# EAGLE library part XC3S1000FG456 (library xilinx_spartan3_virtex4_and_5)
Xilinx FPGA
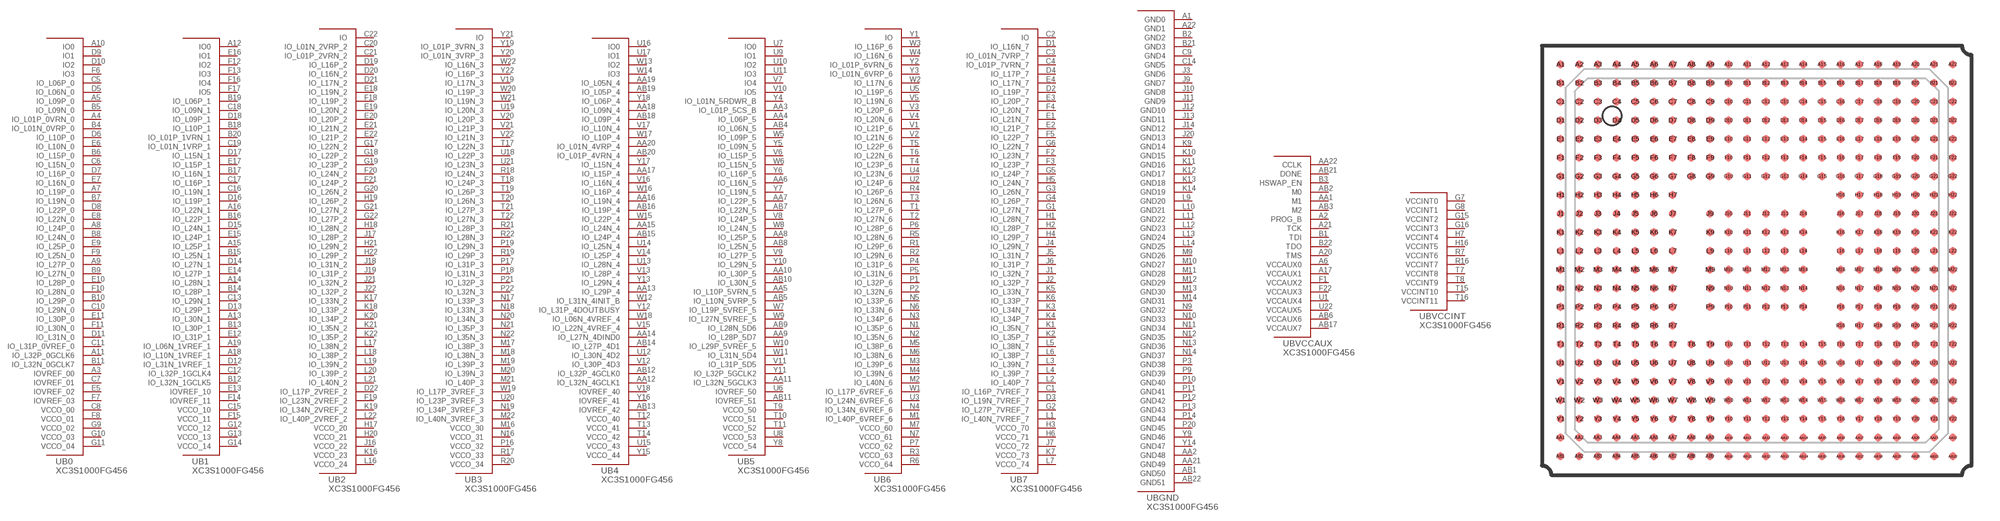
[diagram p16: symbol with the pads of FG456; footprint FG456]

Designator prefix U; gates B0=XC3S1000FG456_0 B1=XC3S1000FG456_1 B2=XC3S1000FG456_2 B3=XC3S1000FG456_3 B4=XC3S1000FG456_4 B5=XC3S1000FG456_5 B6=XC3S1000FG456_6 B7=XC3S1000FG456_7 BGND=XC3S1000FG456_GND BVCCAUX=XC3S1000FG456_VCCAUX BVCCINT=XC3S1000FG456_VCCINT

## XC3S1000FG456  [FG456]
A1  BGND:GND0  pas
A2  BVCCAUX:PROG_B
A3  B0:IOVREF_00
A4  B0:IO_L01P_0VRN_0
A5  B0:IO_L09P_0
A6  BVCCAUX:VCCAUX0  pas
A7  B0:IO_L19P_0
A8  B0:IO_L24P_0
A9  B0:IO_L27P_0
A10  B0:IO0
A11  B0:IO_L32P_0GCLK6
A12  B1:IO0
A13  B1:IO_L30N_1
A14  B1:IO_L28N_1
A15  B1:IO_L25P_1
A16  B1:IO_L22N_1
A17  BVCCAUX:VCCAUX1  pas
A18  B1:IO_L10N_1VREF_1
A19  B1:IO_L06N_1VREF_1
A20  BVCCAUX:TMS
A21  BVCCAUX:TCK
A22  BGND:GND1  pas
AA1  BVCCAUX:M1
AA2  BGND:GND48  pas
AA3  B5:IO_L01P_5CS_B
AA4  B5:IO_L06P_5
AA5  B5:IO_L10P_5VRN_5
AA6  B5:IO_L16N_5
AA7  B5:IO_L22P_5
AA8  B5:IO_L25P_5
AA9  B5:IO_L28P_5D7
AA10  B5:IO_L30P_5
AA11  B5:IO_L32N_5GCLK3
AA12  B4:IO_L32N_4GCLK1
AA13  B4:IO_L29P_4
AA14  B4:IO_L27N_4DIND0
AA15  B4:IO_L24N_4
AA16  B4:IO_L19N_4
AA17  B4:IO_L15P_4
AA18  B4:IO_L09N_4
AA19  B4:IO_L05N_4
AA20  B4:IO_L01N_4VRP_4
AA21  BGND:GND49  pas
AA22  BVCCAUX:CCLK
AB1  BGND:GND50  pas
AB2  BVCCAUX:M0
AB3  BVCCAUX:M2
AB4  B5:IO_L06N_5
AB5  B5:IO_L10N_5VRP_5
AB6  BVCCAUX:VCCAUX6  pas
AB7  B5:IO_L22N_5
AB8  B5:IO_L25N_5
AB9  B5:IO_L28N_5D6
AB10  B5:IO_L30N_5
AB11  B5:IOVREF_51
AB12  B4:IO_L32P_4GCLK0
AB13  B4:IOVREF_42
AB14  B4:IO_L27P_4D1
AB15  B4:IO_L24P_4
AB16  B4:IO_L19P_4
AB17  BVCCAUX:VCCAUX7  pas
AB18  B4:IO_L09P_4
AB19  B4:IO_L05P_4
AB20  B4:IO_L01P_4VRN_4
AB21  BVCCAUX:DONE
AB22  BGND:GND51  pas
B1  BVCCAUX:TDI
B2  BGND:GND2  pas
B3  BVCCAUX:HSWAP_EN
B4  B0:IO_L01N_0VRP_0
B5  B0:IO_L09N_0
B6  B0:IO_L15P_0
B7  B0:IO_L19N_0
B8  B0:IO_L24N_0
B9  B0:IO_L27N_0
B10  B0:IO_L29P_0
B11  B0:IO_L32N_0GCLK7
B12  B1:IO_L32N_1GCLK5
B13  B1:IO_L30P_1
B14  B1:IO_L28P_1
B15  B1:IO_L25N_1
B16  B1:IO_L22P_1
B17  B1:IO_L16N_1
B18  B1:IO_L10P_1
B19  B1:IO_L06P_1
B20  B1:IO_L01P_1VRN_1
B21  BGND:GND3  pas
B22  BVCCAUX:TDO
C1  B7:IO_L16P_7VREF_7
C2  B7:IO
C3  B7:IO_L01N_7VRP_7
C4  B7:IO_L01P_7VRN_7
C5  B0:IO_L06P_0
C6  B0:IO_L15N_0
C7  B0:IOVREF_01
C8  B0:VCCO_00  pas
C9  BGND:GND4  pas
C10  B0:IO_L29N_0
C11  B0:IO_L31P_0VREF_0
C12  B1:IO_L32P_1GCLK4
C13  B1:IO_L29N_1
C14  BGND:GND5  pas
C15  B1:VCCO_10  pas
C16  B1:IO_L19N_1
C17  B1:IO_L16P_1
C18  B1:IO_L09N_1
C19  B1:IO_L01N_1VRP_1
C20  B2:IO_L01N_2VRP_2
C21  B2:IO_L01P_2VRN_2
C22  B2:IO
D1  B7:IO_L16N_7
D2  B7:IO_L19P_7
D3  B7:IO_L19N_7VREF_7
D4  B7:IO_L17P_7
D5  B0:IO_L06N_0
D6  B0:IO_L10P_0
D7  B0:IO_L16P_0
D8  B0:IO_L22P_0
D9  B0:IO1
D10  B0:IO2
D11  B0:IO_L31N_0
D12  B1:IO_L31N_1VREF_1
D13  B1:IO_L29P_1
D14  B1:IO_L27N_1
D15  B1:IO_L24N_1
D16  B1:IO_L19P_1
D17  B1:IO_L15N_1
D18  B1:IO_L09P_1
D19  B2:IO_L16P_2
D20  B2:IO_L16N_2
D21  B2:IO_L17N_2
D22  B2:IO_L17P_2VREF_2
E1  B7:IO_L21N_7
E2  B7:IO_L21P_7
E3  B7:IO_L20P_7
E4  B7:IO_L17N_7
E5  B0:IOVREF_02
E6  B0:IO_L10N_0
E7  B0:IO_L16N_0
E8  B0:IO_L22N_0
E9  B0:IO_L25P_0
E10  B0:IO_L28P_0
E11  B0:IO_L30P_0
E12  B1:IO_L31P_1
E13  B1:IOVREF_10
E14  B1:IO_L27P_1
E15  B1:IO_L24P_1
E16  B1:IO1
E17  B1:IO_L15P_1
E18  B2:IO_L19N_2
E19  B2:IO_L20N_2
E20  B2:IO_L20P_2
E21  B2:IO_L21N_2
E22  B2:IO_L21P_2
F1  BVCCAUX:VCCAUX2  pas
F2  B7:IO_L23N_7
F3  B7:IO_L23P_7
F4  B7:IO_L20N_7
F5  B7:IO_L22P_7
F6  B0:IO3
F7  B0:IOVREF_03
F8  B0:VCCO_01  pas
F9  B0:IO_L25N_0
F10  B0:IO_L28N_0
F11  B0:IO_L30N_0
F12  B1:IO2
F13  B1:IO3
F14  B1:IOVREF_11
F15  B1:VCCO_11  pas
F16  B1:IO4
F17  B1:IO5
F18  B2:IO_L19P_2
F19  B2:IO_L23N_2VREF_2
F20  B2:IO_L24N_2
F21  B2:IO_L24P_2
F22  BVCCAUX:VCCAUX3  pas
G1  B7:IO_L27N_7
G2  B7:IO_L27P_7VREF_7
G3  B7:IO_L26N_7
G4  B7:IO_L26P_7
G5  B7:IO_L24P_7
G6  B7:IO_L22N_7
G7  BVCCINT:VCCINT0  pas
G8  BVCCINT:VCCINT1  pas
G9  B0:VCCO_02  pas
G10  B0:VCCO_03  pas
G11  B0:VCCO_04  pas
G12  B1:VCCO_12  pas
G13  B1:VCCO_13  pas
G14  B1:VCCO_14  pas
G15  BVCCINT:VCCINT2  pas
G16  BVCCINT:VCCINT3  pas
G17  B2:IO_L22N_2
G18  B2:IO_L22P_2
G19  B2:IO_L23P_2
G20  B2:IO_L26N_2
G21  B2:IO_L27N_2
G22  B2:IO_L27P_2
H1  B7:IO_L28N_7
H2  B7:IO_L28P_7
H3  B7:VCCO_70  pas
H4  B7:IO_L29P_7
H5  B7:IO_L24N_7
H6  B7:VCCO_71  pas
H7  BVCCINT:VCCINT4  pas
H16  BVCCINT:VCCINT5  pas
H17  B2:VCCO_20  pas
H18  B2:IO_L28N_2
H19  B2:IO_L26P_2
H20  B2:VCCO_21  pas
H21  B2:IO_L29N_2
H22  B2:IO_L29P_2
J1  B7:IO_L32N_7
J2  B7:IO_L32P_7
J3  BGND:GND6  pas
J4  B7:IO_L29N_7
J5  B7:IO_L31N_7
J6  B7:IO_L31P_7
J7  B7:VCCO_72  pas
J9  BGND:GND7  pas
J10  BGND:GND8  pas
J11  BGND:GND9  pas
J12  BGND:GND10  pas
J13  BGND:GND11  pas
J14  BGND:GND12  pas
J16  B2:VCCO_22  pas
J17  B2:IO_L28P_2
J18  B2:IO_L31N_2
J19  B2:IO_L31P_2
J20  BGND:GND13  pas
J21  B2:IO_L32N_2
J22  B2:IO_L32P_2
K1  B7:IO_L35N_7
K2  B7:IO_L35P_7
K3  B7:IO_L34N_7
K4  B7:IO_L34P_7
K5  B7:IO_L33N_7
K6  B7:IO_L33P_7
K7  B7:VCCO_73  pas
K9  BGND:GND14  pas
K10  BGND:GND15  pas
K11  BGND:GND16  pas
K12  BGND:GND17  pas
K13  BGND:GND18  pas
K14  BGND:GND19  pas
K16  B2:VCCO_23  pas
K17  B2:IO_L33N_2
K18  B2:IO_L33P_2
K19  B2:IO_L34N_2VREF_2
K20  B2:IO_L34P_2
K21  B2:IO_L35N_2
K22  B2:IO_L35P_2
L1  B7:IO_L40N_7VREF_7
L2  B7:IO_L40P_7
L3  B7:IO_L39N_7
L4  B7:IO_L39P_7
L5  B7:IO_L38N_7
L6  B7:IO_L38P_7
L7  B7:VCCO_74  pas
L9  BGND:GND20  pas
L10  BGND:GND21  pas
L11  BGND:GND22  pas
L12  BGND:GND23  pas
L13  BGND:GND24  pas
L14  BGND:GND25  pas
L16  B2:VCCO_24  pas
L17  B2:IO_L38N_2
L18  B2:IO_L38P_2
L19  B2:IO_L39N_2
L20  B2:IO_L39P_2
L21  B2:IO_L40N_2
L22  B2:IO_L40P_2VREF_2
M1  B6:IO_L40P_6VREF_6
M2  B6:IO_L40N_6
M3  B6:IO_L39P_6
M4  B6:IO_L39N_6
M5  B6:IO_L38P_6
M6  B6:IO_L38N_6
M7  B6:VCCO_60  pas
M9  BGND:GND26  pas
M10  BGND:GND27  pas
M11  BGND:GND28  pas
M12  BGND:GND29  pas
M13  BGND:GND30  pas
M14  BGND:GND31  pas
M16  B3:VCCO_30  pas
M17  B3:IO_L38P_3
M18  B3:IO_L38N_3
M19  B3:IO_L39P_3
M20  B3:IO_L39N_3
M21  B3:IO_L40P_3
M22  B3:IO_L40N_3VREF_3
N1  B6:IO_L35P_6
N2  B6:IO_L35N_6
N3  B6:IO_L34P_6
N4  B6:IO_L34N_6VREF_6
N5  B6:IO_L33P_6
N6  B6:IO_L33N_6
N7  B6:VCCO_61  pas
N9  BGND:GND32  pas
N10  BGND:GND33  pas
N11  BGND:GND34  pas
N12  BGND:GND35  pas
N13  BGND:GND36  pas
N14  BGND:GND37  pas
N16  B3:VCCO_31  pas
N17  B3:IO_L33P_3
N18  B3:IO_L33N_3
N19  B3:IO_L34P_3VREF_3
N20  B3:IO_L34N_3
N21  B3:IO_L35P_3
N22  B3:IO_L35N_3
P1  B6:IO_L32P_6
P2  B6:IO_L32N_6
P3  BGND:GND38  pas
P4  B6:IO_L31P_6
P5  B6:IO_L31N_6
P6  B6:IO_L28P_6
P7  B6:VCCO_62  pas
P9  BGND:GND39  pas
P10  BGND:GND40  pas
P11  BGND:GND41  pas
P12  BGND:GND42  pas
P13  BGND:GND43  pas
P14  BGND:GND44  pas
P16  B3:VCCO_32  pas
P17  B3:IO_L31P_3
P18  B3:IO_L31N_3
P19  B3:IO_L29N_3
P20  BGND:GND45  pas
P21  B3:IO_L32P_3
P22  B3:IO_L32N_3
R1  B6:IO_L29P_6
R2  B6:IO_L29N_6
R3  B6:VCCO_63  pas
R4  B6:IO_L26P_6
R5  B6:IO_L28N_6
R6  B6:VCCO_64  pas
R7  BVCCINT:VCCINT6  pas
R16  BVCCINT:VCCINT7  pas
R17  B3:VCCO_33  pas
R18  B3:IO_L24N_3
R19  B3:IO_L29P_3
R20  B3:VCCO_34  pas
R21  B3:IO_L28P_3
R22  B3:IO_L28N_3
T1  B6:IO_L27P_6
T2  B6:IO_L27N_6
T3  B6:IO_L26N_6
T4  B6:IO_L23P_6
T5  B6:IO_L22P_6
T6  B6:IO_L22N_6
T7  BVCCINT:VCCINT8  pas
T8  BVCCINT:VCCINT9  pas
T9  B5:VCCO_50  pas
T10  B5:VCCO_51  pas
T11  B5:VCCO_52  pas
T12  B4:VCCO_40  pas
T13  B4:VCCO_41  pas
T14  B4:VCCO_42  pas
T15  BVCCINT:VCCINT10  pas
T16  BVCCINT:VCCINT11  pas
T17  B3:IO_L22N_3
T18  B3:IO_L24P_3
T19  B3:IO_L26P_3
T20  B3:IO_L26N_3
T21  B3:IO_L27P_3
T22  B3:IO_L27N_3
U1  BVCCAUX:VCCAUX4  pas
U2  B6:IO_L24P_6
U3  B6:IO_L24N_6VREF_6
U4  B6:IO_L23N_6
U5  B6:IO_L19P_6
U6  B5:IOVREF_50
U7  B5:IO0
U8  B5:VCCO_53  pas
U9  B5:IO1
U10  B5:IO2
U11  B5:IO3
U12  B4:IO_L30N_4D2
U13  B4:IO_L28N_4
U14  B4:IO_L25N_4
U15  B4:VCCO_43  pas
U16  B4:IO0
U17  B4:IO1
U18  B3:IO_L22P_3
U19  B3:IO_L20N_3
U20  B3:IO_L23P_3VREF_3
U21  B3:IO_L23N_3
U22  BVCCAUX:VCCAUX5  pas
V1  B6:IO_L21P_6
V2  B6:IO_L21N_6
V3  B6:IO_L20P_6
V4  B6:IO_L20N_6
V5  B6:IO_L19N_6
V6  B5:IO_L15P_5
V7  B5:IO4
V8  B5:IO_L24P_5
V9  B5:IO_L27P_5
V10  B5:IO5
V11  B5:IO_L31P_5D5
V12  B4:IO_L30P_4D3
V13  B4:IO_L28P_4
V14  B4:IO_L25P_4
V15  B4:IO_L22N_4VREF_4
V16  B4:IO_L16N_4
V17  B4:IO_L10N_4
V18  B4:IOVREF_40
V19  B3:IO_L17N_3
V20  B3:IO_L20P_3
V21  B3:IO_L21P_3
V22  B3:IO_L21N_3
W1  B6:IO_L17P_6VREF_6
W2  B6:IO_L17N_6
W3  B6:IO_L16P_6
W4  B6:IO_L16N_6
W5  B5:IO_L09P_5
W6  B5:IO_L15N_5
W7  B5:IO_L19P_5VREF_5
W8  B5:IO_L24N_5
W9  B5:IO_L27N_5VREF_5
W10  B5:IO_L29P_5VREF_5
W11  B5:IO_L31N_5D4
W12  B4:IO_L31N_4INIT_B
W13  B4:IO2
W14  B4:IO3
W15  B4:IO_L22P_4
W16  B4:IO_L16P_4
W17  B4:IO_L10P_4
W18  B4:IO_L06N_4VREF_4
W19  B3:IO_L17P_3VREF_3
W20  B3:IO_L19P_3
W21  B3:IO_L19N_3
W22  B3:IO_L16N_3
Y1  B6:IO
Y2  B6:IO_L01P_6VRN_6
Y3  B6:IO_L01N_6VRP_6
Y4  B5:IO_L01N_5RDWR_B
Y5  B5:IO_L09N_5
Y6  B5:IO_L16P_5
Y7  B5:IO_L19N_5
Y8  B5:VCCO_54  pas
Y9  BGND:GND46  pas
Y10  B5:IO_L29N_5
Y11  B5:IO_L32P_5GCLK2
Y12  B4:IO_L31P_4DOUTBUSY
Y13  B4:IO_L29N_4
Y14  BGND:GND47  pas
Y15  B4:VCCO_44  pas
Y16  B4:IOVREF_41
Y17  B4:IO_L15N_4
Y18  B4:IO_L06P_4
Y19  B3:IO_L01P_3VRN_3
Y20  B3:IO_L01N_3VRP_3
Y21  B3:IO
Y22  B3:IO_L16P_3

## Footprint FG456 (pad centres in mm)
smd 0.4 x 0.4: A1 -10.5,10.5; A2 -9.5,10.5; A3 -8.5,10.5; A4 -7.5,10.5; A5 -6.5,10.5; A6 -5.5,10.5; A7 -4.5,10.5; A8 -3.5,10.5; A9 -2.5,10.5; A10 -1.5,10.5; A11 -0.5,10.5; A12 0.5,10.5; A13 1.5,10.5; A14 2.5,10.5; A15 3.5,10.5; A16 4.5,10.5; A17 5.5,10.5; A18 6.5,10.5; A19 7.5,10.5; A20 8.5,10.5; A21 9.5,10.5; A22 10.5,10.5; AA1 -10.5,-9.5; AA2 -9.5,-9.5; AA3 -8.5,-9.5; AA4 -7.5,-9.5; AA5 -6.5,-9.5; AA6 -5.5,-9.5; AA7 -4.5,-9.5; AA8 -3.5,-9.5; AA9 -2.5,-9.5; AA10 -1.5,-9.5; AA11 -0.5,-9.5; AA12 0.5,-9.5; AA13 1.5,-9.5; AA14 2.5,-9.5; AA15 3.5,-9.5; AA16 4.5,-9.5; AA17 5.5,-9.5; AA18 6.5,-9.5; AA19 7.5,-9.5; AA20 8.5,-9.5; AA21 9.5,-9.5; AA22 10.5,-9.5; AB1 -10.5,-10.5; AB2 -9.5,-10.5; AB3 -8.5,-10.5; AB4 -7.5,-10.5; AB5 -6.5,-10.5; AB6 -5.5,-10.5; AB7 -4.5,-10.5; AB8 -3.5,-10.5; AB9 -2.5,-10.5; AB10 -1.5,-10.5; AB11 -0.5,-10.5; AB12 0.5,-10.5; AB13 1.5,-10.5; AB14 2.5,-10.5; AB15 3.5,-10.5; AB16 4.5,-10.5; AB17 5.5,-10.5; AB18 6.5,-10.5; AB19 7.5,-10.5; AB20 8.5,-10.5; AB21 9.5,-10.5; AB22 10.5,-10.5; B1 -10.5,9.5; B2 -9.5,9.5; B3 -8.5,9.5; B4 -7.5,9.5; B5 -6.5,9.5; B6 -5.5,9.5; B7 -4.5,9.5; B8 -3.5,9.5; B9 -2.5,9.5; B10 -1.5,9.5; B11 -0.5,9.5; B12 0.5,9.5; B13 1.5,9.5; B14 2.5,9.5; B15 3.5,9.5; B16 4.5,9.5; B17 5.5,9.5; B18 6.5,9.5; B19 7.5,9.5; B20 8.5,9.5; B21 9.5,9.5; B22 10.5,9.5; C1 -10.5,8.5; C2 -9.5,8.5; C3 -8.5,8.5; C4 -7.5,8.5; C5 -6.5,8.5; C6 -5.5,8.5; C7 -4.5,8.5; C8 -3.5,8.5; C9 -2.5,8.5; C10 -1.5,8.5; C11 -0.5,8.5; C12 0.5,8.5; C13 1.5,8.5; C14 2.5,8.5; C15 3.5,8.5; C16 4.5,8.5; C17 5.5,8.5; C18 6.5,8.5; C19 7.5,8.5; C20 8.5,8.5; C21 9.5,8.5; C22 10.5,8.5; D1 -10.5,7.5; D2 -9.5,7.5; D3 -8.5,7.5; D4 -7.5,7.5; D5 -6.5,7.5; D6 -5.5,7.5; D7 -4.5,7.5; D8 -3.5,7.5; D9 -2.5,7.5; D10 -1.5,7.5; D11 -0.5,7.5; D12 0.5,7.5; D13 1.5,7.5; D14 2.5,7.5; D15 3.5,7.5; D16 4.5,7.5; D17 5.5,7.5; D18 6.5,7.5; D19 7.5,7.5; D20 8.5,7.5; D21 9.5,7.5; D22 10.5,7.5; E1 -10.5,6.5; E2 -9.5,6.5; E3 -8.5,6.5; E4 -7.5,6.5; E5 -6.5,6.5; E6 -5.5,6.5; E7 -4.5,6.5; E8 -3.5,6.5; E9 -2.5,6.5; E10 -1.5,6.5; E11 -0.5,6.5; E12 0.5,6.5; E13 1.5,6.5; E14 2.5,6.5; E15 3.5,6.5; E16 4.5,6.5; E17 5.5,6.5; E18 6.5,6.5; E19 7.5,6.5; E20 8.5,6.5; E21 9.5,6.5; E22 10.5,6.5; F1 -10.5,5.5; F2 -9.5,5.5; F3 -8.5,5.5; F4 -7.5,5.5; F5 -6.5,5.5; F6 -5.5,5.5; F7 -4.5,5.5; F8 -3.5,5.5; F9 -2.5,5.5; F10 -1.5,5.5; F11 -0.5,5.5; F12 0.5,5.5; F13 1.5,5.5; F14 2.5,5.5; F15 3.5,5.5; F16 4.5,5.5; F17 5.5,5.5; F18 6.5,5.5; F19 7.5,5.5; F20 8.5,5.5; F21 9.5,5.5; F22 10.5,5.5; G1 -10.5,4.5; G2 -9.5,4.5; G3 -8.5,4.5; G4 -7.5,4.5; G5 -6.5,4.5; G6 -5.5,4.5; G7 -4.5,4.5; G8 -3.5,4.5; G9 -2.5,4.5; G10 -1.5,4.5; G11 -0.5,4.5; G12 0.5,4.5; G13 1.5,4.5; G14 2.5,4.5; G15 3.5,4.5; G16 4.5,4.5; G17 5.5,4.5; G18 6.5,4.5; G19 7.5,4.5; G20 8.5,4.5; G21 9.5,4.5; G22 10.5,4.5; H1 -10.5,3.5; H2 -9.5,3.5; H3 -8.5,3.5; H4 -7.5,3.5; H5 -6.5,3.5; H6 -5.5,3.5; H7 -4.5,3.5; H16 4.5,3.5; H17 5.5,3.5; H18 6.5,3.5; H19 7.5,3.5; H20 8.5,3.5; H21 9.5,3.5; H22 10.5,3.5; J1 -10.5,2.5; J2 -9.5,2.5; J3 -8.5,2.5; J4 -7.5,2.5; J5 -6.5,2.5; J6 -5.5,2.5; J7 -4.5,2.5; J9 -2.5,2.5; J10 -1.5,2.5; J11 -0.5,2.5; J12 0.5,2.5; J13 1.5,2.5; J14 2.5,2.5; J16 4.5,2.5; J17 5.5,2.5; J18 6.5,2.5; J19 7.5,2.5; J20 8.5,2.5; J21 9.5,2.5; J22 10.5,2.5; K1 -10.5,1.5; K2 -9.5,1.5; K3 -8.5,1.5; K4 -7.5,1.5; K5 -6.5,1.5; K6 -5.5,1.5; K7 -4.5,1.5; K9 -2.5,1.5; K10 -1.5,1.5; K11 -0.5,1.5; K12 0.5,1.5; K13 1.5,1.5; K14 2.5,1.5; K16 4.5,1.5; K17 5.5,1.5; K18 6.5,1.5; K19 7.5,1.5; K20 8.5,1.5; K21 9.5,1.5; K22 10.5,1.5; L1 -10.5,0.5; L2 -9.5,0.5; L3 -8.5,0.5; L4 -7.5,0.5; L5 -6.5,0.5; L6 -5.5,0.5; L7 -4.5,0.5; L9 -2.5,0.5; L10 -1.5,0.5; L11 -0.5,0.5; L12 0.5,0.5; L13 1.5,0.5; L14 2.5,0.5; L16 4.5,0.5; L17 5.5,0.5; L18 6.5,0.5; L19 7.5,0.5; L20 8.5,0.5; L21 9.5,0.5; L22 10.5,0.5; M1 -10.5,-0.5; M2 -9.5,-0.5; M3 -8.5,-0.5; M4 -7.5,-0.5; M5 -6.5,-0.5; M6 -5.5,-0.5; M7 -4.5,-0.5; M9 -2.5,-0.5; M10 -1.5,-0.5; M11 -0.5,-0.5; M12 0.5,-0.5; M13 1.5,-0.5; M14 2.5,-0.5; M16 4.5,-0.5; M17 5.5,-0.5; M18 6.5,-0.5; M19 7.5,-0.5; M20 8.5,-0.5; M21 9.5,-0.5; M22 10.5,-0.5; N1 -10.5,-1.5; N2 -9.5,-1.5; N3 -8.5,-1.5; N4 -7.5,-1.5; N5 -6.5,-1.5; N6 -5.5,-1.5; N7 -4.5,-1.5; N9 -2.5,-1.5; N10 -1.5,-1.5; N11 -0.5,-1.5; N12 0.5,-1.5; N13 1.5,-1.5; N14 2.5,-1.5; N16 4.5,-1.5; N17 5.5,-1.5; N18 6.5,-1.5; N19 7.5,-1.5; N20 8.5,-1.5; N21 9.5,-1.5; N22 10.5,-1.5; P1 -10.5,-2.5; P2 -9.5,-2.5; P3 -8.5,-2.5; P4 -7.5,-2.5; P5 -6.5,-2.5; P6 -5.5,-2.5; P7 -4.5,-2.5; P9 -2.5,-2.5; P10 -1.5,-2.5; P11 -0.5,-2.5; P12 0.5,-2.5; P13 1.5,-2.5; P14 2.5,-2.5; P16 4.5,-2.5; P17 5.5,-2.5; P18 6.5,-2.5; P19 7.5,-2.5; P20 8.5,-2.5; P21 9.5,-2.5; P22 10.5,-2.5; R1 -10.5,-3.5; R2 -9.5,-3.5; R3 -8.5,-3.5; R4 -7.5,-3.5; R5 -6.5,-3.5; R6 -5.5,-3.5; R7 -4.5,-3.5; R16 4.5,-3.5; R17 5.5,-3.5; R18 6.5,-3.5; R19 7.5,-3.5; R20 8.5,-3.5; R21 9.5,-3.5; R22 10.5,-3.5; T1 -10.5,-4.5; T2 -9.5,-4.5; T3 -8.5,-4.5; T4 -7.5,-4.5; T5 -6.5,-4.5; T6 -5.5,-4.5; T7 -4.5,-4.5; T8 -3.5,-4.5; T9 -2.5,-4.5; T10 -1.5,-4.5; T11 -0.5,-4.5; T12 0.5,-4.5; T13 1.5,-4.5; T14 2.5,-4.5; T15 3.5,-4.5; T16 4.5,-4.5; T17 5.5,-4.5; T18 6.5,-4.5; T19 7.5,-4.5; T20 8.5,-4.5; T21 9.5,-4.5; T22 10.5,-4.5; U1 -10.5,-5.5; U2 -9.5,-5.5; U3 -8.5,-5.5; U4 -7.5,-5.5; U5 -6.5,-5.5; U6 -5.5,-5.5; U7 -4.5,-5.5; U8 -3.5,-5.5; U9 -2.5,-5.5; U10 -1.5,-5.5; U11 -0.5,-5.5; U12 0.5,-5.5; U13 1.5,-5.5; U14 2.5,-5.5; U15 3.5,-5.5; U16 4.5,-5.5; U17 5.5,-5.5; U18 6.5,-5.5; U19 7.5,-5.5; U20 8.5,-5.5; U21 9.5,-5.5; U22 10.5,-5.5; V1 -10.5,-6.5; V2 -9.5,-6.5; V3 -8.5,-6.5; V4 -7.5,-6.5; V5 -6.5,-6.5; V6 -5.5,-6.5; V7 -4.5,-6.5; V8 -3.5,-6.5; V9 -2.5,-6.5; V10 -1.5,-6.5; V11 -0.5,-6.5; V12 0.5,-6.5; V13 1.5,-6.5; V14 2.5,-6.5; V15 3.5,-6.5; V16 4.5,-6.5; V17 5.5,-6.5; V18 6.5,-6.5; V19 7.5,-6.5; V20 8.5,-6.5; V21 9.5,-6.5; V22 10.5,-6.5; W1 -10.5,-7.5; W2 -9.5,-7.5; W3 -8.5,-7.5; W4 -7.5,-7.5; W5 -6.5,-7.5; W6 -5.5,-7.5; W7 -4.5,-7.5; W8 -3.5,-7.5; W9 -2.5,-7.5; W10 -1.5,-7.5; W11 -0.5,-7.5; W12 0.5,-7.5; W13 1.5,-7.5; W14 2.5,-7.5; W15 3.5,-7.5; W16 4.5,-7.5; W17 5.5,-7.5; W18 6.5,-7.5; W19 7.5,-7.5; W20 8.5,-7.5; W21 9.5,-7.5; W22 10.5,-7.5; Y1 -10.5,-8.5; Y2 -9.5,-8.5; Y3 -8.5,-8.5; Y4 -7.5,-8.5; Y5 -6.5,-8.5; Y6 -5.5,-8.5; Y7 -4.5,-8.5; Y8 -3.5,-8.5; Y9 -2.5,-8.5; Y10 -1.5,-8.5; Y11 -0.5,-8.5; Y12 0.5,-8.5; Y13 1.5,-8.5; Y14 2.5,-8.5; Y15 3.5,-8.5; Y16 4.5,-8.5; Y17 5.5,-8.5; Y18 6.5,-8.5; Y19 7.5,-8.5; Y20 8.5,-8.5; Y21 9.5,-8.5; Y22 10.5,-8.5